# EAGLE library part 74ACTQ245SCX (library Fairchild_By_element14_Batch_1)
Quiet Series Octal Bidirectional Transceiver with 3-STATE Inputs/Outputs
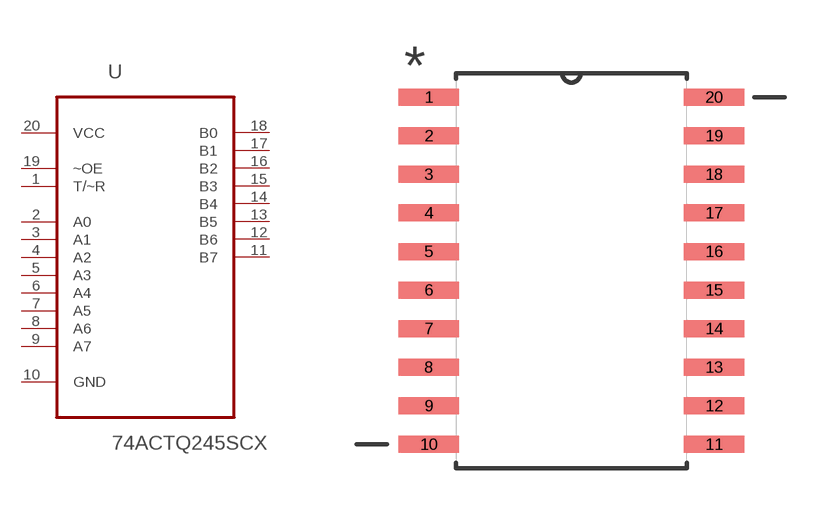
[diagram p55: symbol with the pads of SOIC127P1032X265-20N; footprint SOIC127P1032X265-20N]

Designator prefix U

## 74ACTQ245SCX (MPN: 74ACTQ245SCX; OC_FARNELL: -; OC_NEWARK: 46P9665; PACKAGE: SOIC-20; SUPPLIER: Fairchild)  [SOIC127P1032X265-20N]
1  T/~R  in
2  A0
3  A1
4  A2
5  A3
6  A4
7  A5
8  A6
9  A7
10  GND  pas
11  B7
12  B6
13  B5
14  B4
15  B3
16  B2
17  B1
18  B0
19  ~OE  in
20  VCC  pwr

## Footprint SOIC127P1032X265-20N (pad centres in mm)
smd 1.981 x 0.559: 1 -4.699,5.715; 2 -4.699,4.445; 3 -4.699,3.175; 4 -4.699,1.905; 5 -4.699,0.635; 6 -4.699,-0.635; 7 -4.699,-1.905; 8 -4.699,-3.175; 9 -4.699,-4.445; 10 -4.699,-5.715; 11 4.699,-5.715; 12 4.699,-4.445; 13 4.699,-3.175; 14 4.699,-1.905; 15 4.699,-0.635; 16 4.699,0.635; 17 4.699,1.905; 18 4.699,3.175; 19 4.699,4.445; 20 4.699,5.715